# Altium footprint library PCBFootprint_DIP.PcbLib: 141 footprints (part 1 of 9)
Each footprint in its own frame and in the unit in brackets; x right, y up, seen from the top. Pads: shape width x height; smd on the part's side, far side on the other; paste and mask are expansions set on the pad; w line width, h text height; cw(c..) or ccw(c..) is an arc to the next point about the centre after c.
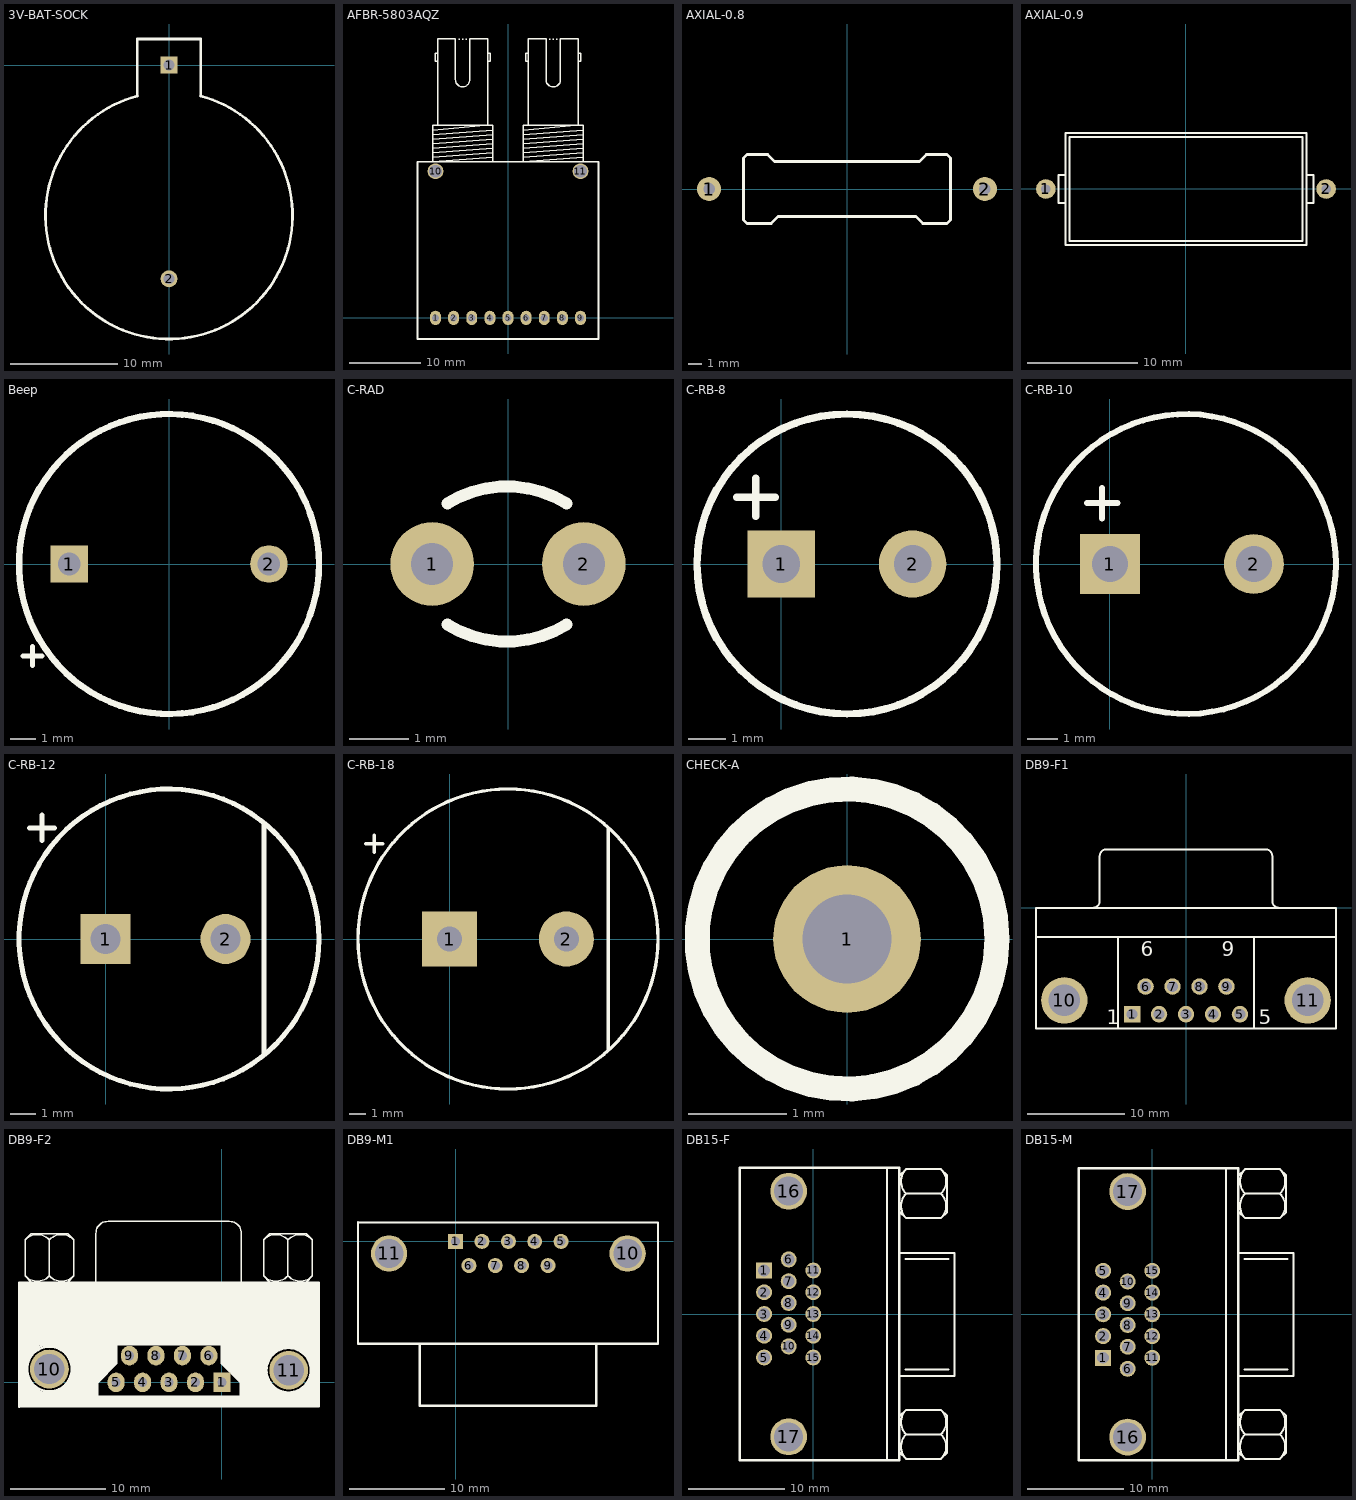
[diagram p0: the footprints below, top view; thin cyan lines are the x and y axes]

## 3V-BAT-SOCK [mil]
pads (2):
  rect 62x62 hole 39.37: 1(0,0)
  round 62 hole 39.37: 2(0,-783.47)
Top Overlay:
  lines w10: -116.14,-110.24 -116.14,95.47 116.14,95.47 116.14,-110.24 ; -115.32,-113.36 ccw(c0,-551.18) 115.32,-113.36

## AFBR-5803AQZ [mm] "光以太网"
height 14.8
pads (11):
  oval 1.524x2 hole 1: 1(-10.16,0) 2(-7.62,0) 3(-5.08,0) 4(-2.54,0) 5(0,0) 6(2.54,0) 7(5.08,0) 8(7.62,0) 9(10.16,0)
  round 2.2 hole 1.8: 10(-10.16,20.54) 11(10.16,20.54)
Top Overlay:
  lines w0.2: -10.559,23.15 -2.159,23.785 ; -10.559,23.785 -2.159,24.42 ; -10.559,24.42 -2.159,25.055 ; -10.559,25.055 -2.159,25.69 ; -10.559,25.69 -2.159,26.325 ; -10.559,26.325 -3.184,26.98 ; -10.55,22.515 -2.159,23.15 ; -9.859,35.985 -10.225,35.985 -10.225,37.085 -9.859,37.085 ; -7.359,33.378 ccw(c-6.359,33.378) -5.359,33.385 -5.359,39.08 -2.859,39.08 -2.859,26.98 -9.859,26.98 -9.859,39.08 -7.359,39.08 -7.359,33.378 ; -6.923,39.047 -6.796,39.047 ; -6.415,39.047 -6.288,39.047 ; -5.907,39.047 -5.78,39.047 ; -2.859,35.985 -2.478,35.985 -2.478,37.085 -2.859,37.085 ; -2.168,22.515 -10.559,21.88 ; 2.141,23.15 10.541,23.785 ; 2.141,23.785 10.541,24.42 ; 2.141,24.42 10.541,25.055 ; 2.141,25.055 10.541,25.69 ; 2.141,25.69 10.541,26.325 ; 2.141,26.325 9.516,26.98 ; 2.15,22.515 10.541,23.15 ; 2.841,35.985 2.475,35.985 2.475,37.085 2.841,37.085 ; 5.341,33.378 ccw(c6.341,33.378) 7.341,33.385 7.341,39.08 9.841,39.08 9.841,26.98 2.841,26.98 2.841,39.08 5.341,39.08 5.341,33.378 ; 5.777,39.047 5.904,39.047 ; 6.285,39.047 6.412,39.047 ; 6.793,39.047 6.92,39.047 ; 9.841,35.985 10.222,35.985 10.222,37.085 9.841,37.085 ; 10.532,22.515 2.141,21.88 ; -10.559,21.88 -2.159,21.88 -2.159,26.98 -10.559,26.98 -10.559,21.88 ; 2.141,21.88 10.541,21.88 10.541,26.98 2.141,26.98 2.141,21.88
  lines w0.254: -12.7,-2.965 12.7,-2.965 ; -12.7,-2.92 -12.7,21.88 12.7,21.88 12.7,-2.92

## AXIAL-0.8 [mil] "插件电阻"
height 100
pads (2):
  round 70 hole 33.46: 1(-400,0) 2(400,0)
Top Overlay:
  lines w7.87: -300,-90 -300,90 -290,100 -230,100 -210,80 210,80 230,100 290,100 300,90 300,-90 290,-100 220,-100 200,-80 -200,-80 -220,-100 -290,-100 -300,-90
3D body: height 196.07, standoff 0, extent -295,-96.82 -216.26,99.64
3D body: height 196.07, standoff 0, extent 216.26,-96.82 295,99.64
3D body: height 176.54, standoff 19.68, extent -216.53,-77.17 216.54,80
3D body: height 106.24, standoff 90.55, extent -405.24,-6.44 -295,9.27
3D body: height 106.24, standoff 90.55, extent 295,-6.44 405.24,9.27
3D body: height 98.43, standoff 0, extent 392.2,-7.85 407.88,7.87
3D body: height 98.43, standoff 0, extent -407.81,-7.85 -392.12,7.86

## AXIAL-0.9 [mil] "插件电阻"
height 100
pads (2):
  round 70 hole 33.46: 1(-500,0) 2(500,0)
Top Overlay:
  lines w7.87: -430,-50 -455,-50 -455,50 -430,50 ; 430,-50 455,-50 455,50 430,50 ; -430,-200 -430,200 430,200 430,-200 -430,-200 ; -415,-185 -415,185 415,185 415,-185 -415,-185

## Beep [mm] "蜂鸣器"
height 6
pads (2):
  rect 1.5x1.5 hole 0.9: 1(-4,0)
  round 1.5 hole 0.9: 2(4,0)
Top Overlay:
  circle w0.254: c0,0 r6
  lines w0.2: -5.842,-3.683 -5.08,-3.683 ; -5.461,-4.064 -5.461,-3.302

## C-RAD [mm] "瓷片电容"
height 6
pads (2):
  round 1.4 hole 0.7: 1(-1.27,0) 2(1.27,0)
Top Overlay:
  lines w0.2: -1.016,-1.016 ccw(c-0.018,0.606) 0.981,-1.016 ; -1.016,1.016 cw(c-0.018,-0.606) 0.981,1.016

## C-RB-8 [mm] "35V 220UF电容"
height 12
pads (2):
  rect 1.8x1.8 hole 1: 1(0,0)
  round 1.8 hole 1: 2(3.5,0)
Top Overlay:
  circle w0.2: c1.75,0 r4
  lines w0.2: -1.185,1.778 -0.169,1.778 ; -0.677,1.27 -0.677,2.286

## C-RB-10 [mm] "35V470uF电容"
height 16
pads (2):
  rect 2x2 hole 1.2: 1(0,0)
  round 2 hole 1.2: 2(4.8,0)
Top Overlay:
  circle w0.2: c2.54,0 r5
  lines w0.2: -0.762,2.032 0.254,2.032 ; -0.254,1.524 -0.254,2.54

## C-RB-12 [mm] "35V470uF电容"
height 20
pads (2):
  rect 2x2 hole 1.2: 1(0,0)
  round 2 hole 1.2: 2(4.8,0)
Top Overlay:
  circle w0.2: c2.54,0 r6
  lines w0.2: -3.048,4.445 -2.032,4.445 ; -2.54,3.937 -2.54,4.953 ; 6.35,-4.572 6.35,4.572

## C-RB-18 [mm] "35V2200uF电容"
height 20
pads (2):
  rect 3.3x3.3 hole 1.5: 1(0,0)
  round 3.3 hole 1.5: 2(7,0)
Top Overlay:
  circle w0.2: c3.5,0 r9
  lines w0.2: -5.037,5.715 -4.021,5.715 ; -4.529,5.207 -4.529,6.223 ; 9.525,-6.604 9.525,6.604

## CHECK-A [mm] "Connector; Plug"
height 1.45
pads (1):
  round 1.5 hole 0.9: 1(0,0)
Top Overlay:
  circle w0.254: c0,0 r1.524

## DB9-F1 [mm] "DB9母座"
height 12.75
pads (11):
  rect 1.69x1.69 hole 1.09: 1(-5.54,-10.92)
  round 1.69 hole 1.09: 2(-2.77,-10.92) 3(0,-10.92) 4(2.77,-10.92) 5(5.54,-10.92) 6(-4.155,-8.08) 7(-1.385,-8.08) 8(1.385,-8.08) 9(4.155,-8.08)
  round 4.76 hole 3.26: 10(-12.495,-9.5) 11(12.495,-9.5)
Top Overlay:
  lines w0.2: -15.4,-3 15.4,-3 ; -9.56,0.005 ccw(c-9.56,0.7) -8.865,0.7 -8.865,5.3 ; -8.86,5.305 cw(c-8.165,5.305) -8.165,6 8.165,6 cw(c8.165,5.305) 8.86,5.305 ; -7,-12.4 -7,-3 ; 7,-12.4 7,-3 ; 8.865,5.3 8.865,0.7 ccw(c9.56,0.7) 9.56,0.005 ; -15.4,-12.4 -15.4,0 15.4,0 15.4,-12.4 -15.4,-12.4
  text "1" at -8.128,-11.938 h1.5
  text "5" at 7.493,-11.938 h1.5
  text "9" at 3.655,-4.975 h1.5
  text "6" at -4.655,-4.975 h1.5

## DB9-F2 [mil] "DB9母座"
pads (11):
  rect 70x80 hole 38: 1(0,0)
  oval 70x80 hole 38: 2(-109,0) 3(-218,0) 4(-327,0) 5(-436,0) 6(-54,110) 7(-163,110) 8(-272,110) 9(-381,110)
  round 160 hole 125: 10(-711,55) 11(275,50)
Top Overlay:
  circle w11.81: c275,50 r122.17
  circle w11.81: c275,50 r112.33
  circle w11.81: c275,50 r102.48
  circle w11.81: c275,50 r92.64
  circle w11.81: c-711,55 r122.17
  circle w11.81: c-711,55 r112.33
  circle w11.81: c-711,55 r102.48
  circle w11.81: c-711,55 r92.64
  rectangle: -509.34,11.81 -497.53,23.62
  rectangle: -513.54,7.86 -505.67,23.61
  rectangle: -517.21,3.94 -509.34,23.62
  rectangle: -485.72,35.43 -477.84,43.31
  rectangle: -489.65,31.5 -481.78,47.24
  rectangle: -493.59,27.56 -485.72,47.24
  rectangle: -497.53,23.62 -489.65,43.31
  rectangle: -469.97,51.18 -458.16,66.93
  rectangle: -474.18,47.23 -466.3,66.92
  rectangle: -477.84,43.31 -469.97,62.99
  rectangle: -446.35,74.8 -438.47,82.68
  rectangle: -454.22,66.93 -446.35,74.8
  rectangle: -454.49,70.86 -442.68,82.67
  rectangle: -462.36,62.98 -450.55,82.67
  rectangle: 73.34,3.94 81.21,11.81
  rectangle: 65.19,7.86 80.94,19.68
  rectangle: 61.26,15.74 80.94,23.61
  rectangle: 49.45,23.61 65.19,35.42
  rectangle: 41.84,31.5 61.53,43.31
  rectangle: 33.7,43.3 41.57,51.17
  rectangle: 30.03,47.24 45.78,51.18
  rectangle: 21.89,51.17 41.57,62.98
  rectangle: 10.08,62.98 21.89,74.79
  rectangle: 6.14,70.86 21.89,82.67
  rectangle: 2.2,74.79 10.08,82.67
  rectangle: 6.14,74.79 14.01,82.67
  rectangle: 372.55,78.74 400,127.95
  rectangle: 342.75,118.1 399.73,167.31
  rectangle: 165.59,127.94 214.8,167.31
  rectangle: -836.27,118.1 -798.98,157.47
  rectangle: -798.71,147.64 -769.18,177.17
  rectangle: -808.55,137.8 -788.87,157.48
  rectangle: -836,88.58 -808.55,157.48
  rectangle: -836,157.48 400,410
  rectangle: -473.91,59.06 -454.22,78.74
  rectangle: -523.39,19.4 -494.14,39.36
  rectangle: -523.12,39.37 -473.91,78.74
  rectangle: -572.6,78.73 -434.81,177.16
  rectangle: -700.28,157.48 -641.23,177.17
  rectangle: -641.5,127.94 -572.6,177.16
  rectangle: -631.39,-59.05 -592.02,-19.68
  rectangle: -611.97,-39.38 -513.55,157.47
  rectangle: 57.59,19.69 77.28,39.37
  rectangle: 37.64,39.36 77.01,59.05
  rectangle: 17.95,59.05 77.01,88.57
  rectangle: 175.43,-68.91 214.8,-29.54
  rectangle: 77.28,-68.9 185.54,88.58
  rectangle: -1.73,78.73 185.27,157.47
  rectangle: 372.28,-39.38 399.73,9.83
  rectangle: 333.18,-78.74 400,-29.53
  rectangle: 77.01,-100.01 399.73,-59.06
  rectangle: -513.27,-100 77.28,-59.05
  rectangle: -749.5,-100 -513.28,-39.37
  rectangle: -769.45,-100.01 -749.77,-39.38
  rectangle: -798.71,-100 -769.18,-39.37
  rectangle: -818.66,-100.01 -789.14,-19.69
  rectangle: -836.27,-100.01 -808.82,9.83
  lines w6: -836.09,413.35 397.24,413.35 ; -811.17,438.27 ccw(c-761.09,488.35) -711,438.27 ; -811.17,588.44 cw(c-761.09,538.35) -711,588.44 ; -786.09,413.35 -811.09,438.35 -811.09,588.35 -786.09,613.35 -636.09,613.35 -611.09,588.35 -611.09,438.35 -636.09,413.35 ; -711.17,438.27 ccw(c-661.09,488.35) -611,438.27 ; -711.17,588.44 cw(c-661.09,538.35) -611,588.44 ; -711.09,438.35 -711.09,588.35 ; -519.42,413.35 -519.42,613.35 cw(c-469.42,613.35) -469.42,663.35 30.58,663.35 cw(c30.58,613.35) 80.58,613.35 80.58,413.35 ; 172.16,438.27 ccw(c222.24,488.35) 272.33,438.27 ; 172.16,588.44 cw(c222.24,538.35) 272.33,588.44 ; 197.24,413.35 172.24,438.35 172.24,588.35 197.24,613.35 347.24,613.35 372.24,588.35 372.24,438.35 347.24,413.35 ; 272.16,438.27 ccw(c322.24,488.35) 372.33,438.27 ; 272.16,588.44 cw(c322.24,538.35) 372.33,588.44 ; 272.24,438.35 272.24,588.35
  lines w8: -836,-100 400,-100 400,410
  lines w10: -836,-100 -836,410 400,410 ; -513.28,-59.05 -513.28,0 -434.54,78.74 -434.54,157.48 -1.47,157.48 -1.47,78.74 77.28,0 77.28,-59.05 -218,-59.05 -513.28,-59.05

## DB9-M1 [mil] "DB9公座"
height 393.7
pads (11):
  rect 62x62 hole 38: 1(0,0)
  round 62 hole 38: 2(109,0) 3(218,0) 4(327,0) 5(436,0) 6(55,-100) 7(164,-100) 8(273,-100) 9(382,-100)
  round 150 hole 118.11: 10(711,-50) 11(-275,-50)
Top Overlay:
  lines w8: -403.54,78.74 836.61,78.74 836.61,-423.23
  lines w10: -403.54,78.74 -403.54,-423.23 836.61,-423.23 ; -147.64,-425 -147.64,-679.13 580.71,-679.13 580.71,-425
3D body: height 314.96, standoff 0, extent -145,-680 580,-425
3D body: height 393.7, standoff 0, extent -405,-425 835,75

## DB15-F [mil] "VGAĸ"
height 393.7
pads (17):
  rect 65x65 hole 48: 1(-200,177.16)
  round 65 hole 48: 2(-200,88.58) 3(-200,0) 4(-200,-88.58) 5(-200,-177.16) 6(-100,222.17) 7(-100,133.58) 8(-100,45) 9(-100,-43.58) 10(-100,-132.16) 11(0,177.16) 12(0,88.58) 13(0,0) 14(0,-88.58) 15(0,-177.16)
  round 150 hole 118.11: 16(-100,500) 17(-100,-500)
Top Overlay:
  lines w8: 300,-595 300,596.25 ; 350,-251.67 575,-251.67 575,248.33 350,248.33 ; 353.33,-565 378.33,-590 520,-590 545,-565 545,-415 520,-390 378.33,-390 353.33,-415 ; 353.33,415 378.33,390 520,390 545,415 545,565 520,590 378.33,590 353.33,565 ; 375,-226.67 550,-226.67 ; 375,223.33 550,223.33 ; 378.25,-590.09 cw(c428.33,-540) 378.25,-489.91 ; 378.25,-490.09 cw(c428.33,-440) 378.25,-389.91 ; 378.25,389.91 cw(c428.33,440) 378.25,490.09 ; 378.25,489.91 cw(c428.33,540) 378.25,590.09 ; 378.33,-490 520,-490 ; 378.33,490 520,490 ; 520.09,-590.09 ccw(c470,-540) 520.09,-489.91 ; 520.09,-490.09 ccw(c470,-440) 520.09,-389.91 ; 520.09,389.91 ccw(c470,440) 520.09,490.09 ; 520.09,489.91 ccw(c470,540) 520.09,590.09
  lines w10: -300,-595 350,-595 350,595 -300,595 -300,-595

## DB15-M [mil] "VGA公"
height 393.7
pads (17):
  rect 65x65 hole 48: 1(-200,-177.16)
  round 65 hole 48: 2(-200,-88.58) 3(-200,0) 4(-200,88.58) 5(-200,177.16) 6(-100,-222) 7(-100,-132.16) 8(-100,-43.58) 9(-100,45) 10(-100,133.58) 11(0,-177.16) 12(0,-88.58) 13(0,0) 14(0,88.58) 15(0,177.16)
  round 150 hole 118.11: 16(-100,-500) 17(-100,500)
Top Overlay:
  lines w8: 300,-596.25 300,595 ; 350,-250.42 575,-250.42 575,249.58 350,249.58 ; 353.33,-563.75 378.33,-588.75 520,-588.75 545,-563.75 545,-413.75 520,-388.75 378.33,-388.75 353.33,-413.75 ; 353.33,416.25 378.33,391.25 520,391.25 545,416.25 545,566.25 520,591.25 378.33,591.25 353.33,566.25 ; 375,-225.42 550,-225.42 ; 375,224.58 550,224.58 ; 378.25,-588.84 cw(c428.33,-538.75) 378.25,-488.66 ; 378.25,-488.84 cw(c428.33,-438.75) 378.25,-388.66 ; 378.25,391.16 cw(c428.33,441.25) 378.25,491.34 ; 378.25,491.16 cw(c428.33,541.25) 378.25,591.34 ; 378.33,-488.75 520,-488.75 ; 378.33,491.25 520,491.25 ; 520.09,-588.84 ccw(c470,-538.75) 520.09,-488.66 ; 520.09,-488.84 ccw(c470,-438.75) 520.09,-388.66 ; 520.09,391.16 ccw(c470,441.25) 520.09,491.34 ; 520.09,491.16 ccw(c470,541.25) 520.09,591.34
  lines w10: -300,-595 350,-595 350,595 -300,595 -300,-595